# Altium schematic symbol library LDR.SchLib: 1 symbol
Pins are listed as number, name and electrical type; pins without a type are passive.

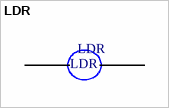
[diagram p0: symbol LDR]

## LDR
designator LDR
pins: 1, 2